# EAGLE library part SENSE1-WIREBOND-VLAQC-TEST2 (library meng)
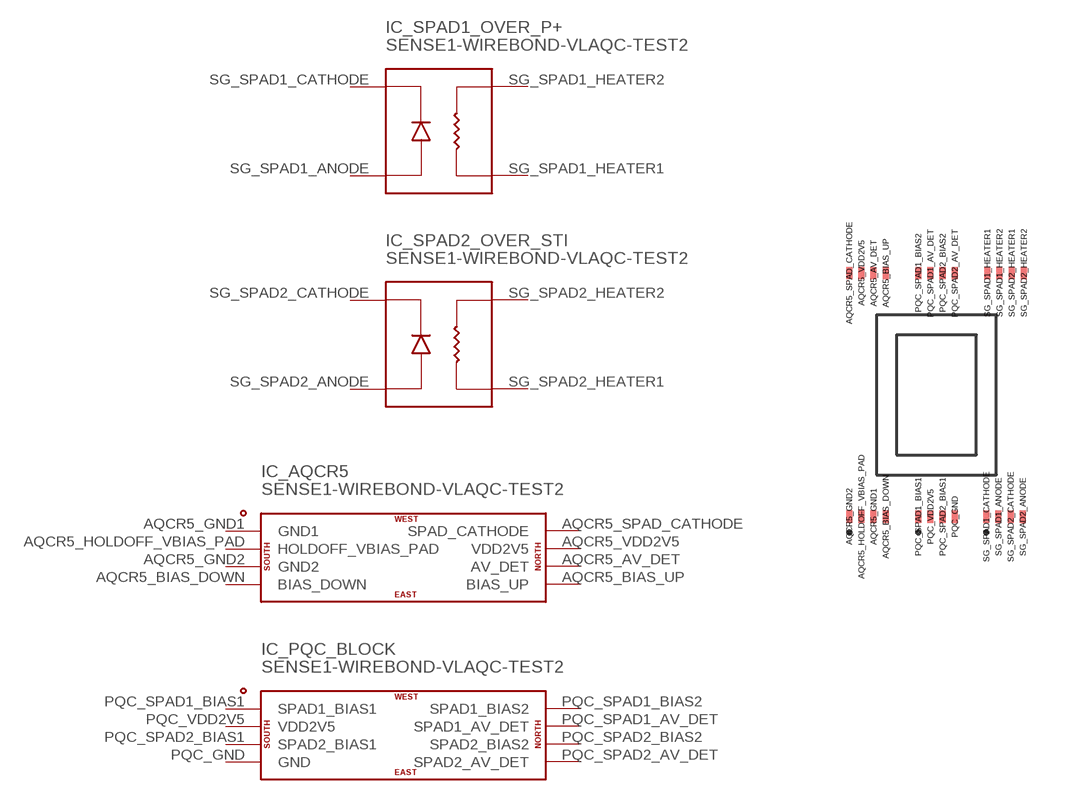
[diagram p33: symbol with the pads of SENSE1-WIREBOND-VLAQC-TEST2; footprint SENSE1-WIREBOND-VLAQC-TEST2]

Designator prefix IC; gates _SPAD1_OVER_P+=SENSE1-SPAD-WITH-HEATER _SPAD2_OVER_STI=SENSE1-SPAD-WITH-HEATER _AQCR5=SENSE1_AQC_REV5 _PQC_BLOCK=SENSE1_PQC

## SENSE1-WIREBOND-VLAQC-TEST2 (VALUE: SENSE1)  [SENSE1-WIREBOND-VLAQC-TEST2]
AQCR5_AV_DET  _AQCR5:AV_DET
AQCR5_BIAS_DOWN  _AQCR5:BIAS_DOWN
AQCR5_BIAS_UP  _AQCR5:BIAS_UP
AQCR5_GND1  _AQCR5:GND1
AQCR5_GND2  _AQCR5:GND2
AQCR5_HOLDOFF_VBIAS_PAD  _AQCR5:HOLDOFF_VBIAS_PAD
AQCR5_SPAD_CATHODE  _AQCR5:SPAD_CATHODE
AQCR5_VDD2V5  _AQCR5:VDD2V5
PQC_GND  _PQC_BLOCK:GND
PQC_SPAD1_AV_DET  _PQC_BLOCK:SPAD1_AV_DET
PQC_SPAD1_BIAS1  _PQC_BLOCK:SPAD1_BIAS1
PQC_SPAD1_BIAS2  _PQC_BLOCK:SPAD1_BIAS2
PQC_SPAD2_AV_DET  _PQC_BLOCK:SPAD2_AV_DET
PQC_SPAD2_BIAS1  _PQC_BLOCK:SPAD2_BIAS1
PQC_SPAD2_BIAS2  _PQC_BLOCK:SPAD2_BIAS2
PQC_VDD2V5  _PQC_BLOCK:VDD2V5
SG_SPAD1_ANODE  _SPAD1_OVER_P+:SPAD_ANODE
SG_SPAD1_CATHODE  _SPAD1_OVER_P+:SPAD_CATHODE
SG_SPAD1_HEATER1  _SPAD1_OVER_P+:SPAD_HEATER1
SG_SPAD1_HEATER2  _SPAD1_OVER_P+:SPAD_HEATER2
SG_SPAD2_ANODE  _SPAD2_OVER_STI:SPAD_ANODE
SG_SPAD2_CATHODE  _SPAD2_OVER_STI:SPAD_CATHODE
SG_SPAD2_HEATER1  _SPAD2_OVER_STI:SPAD_HEATER1
SG_SPAD2_HEATER2  _SPAD2_OVER_STI:SPAD_HEATER2

## Footprint SENSE1-WIREBOND-VLAQC-TEST2 (pad centres in mm)
smd 0.152 x 0.305: AQCR5_AV_DET -1.575,3.048; AQCR5_BIAS_DOWN -1.27,-3.048; AQCR5_BIAS_UP -1.27,3.048; AQCR5_GND1 -1.575,-3.048; AQCR5_GND2 -2.184,-3.048; AQCR5_HOLDOFF_VBIAS_PAD -1.88,-3.048; AQCR5_SPAD_CATHODE -2.184,3.048; AQCR5_VDD2V5 -1.88,3.048; PQC_GND 0.457,-3.048; PQC_SPAD1_AV_DET -0.152,3.048; PQC_SPAD1_BIAS1 -0.457,-3.048; PQC_SPAD1_BIAS2 -0.457,3.048; PQC_SPAD2_AV_DET 0.457,3.048; PQC_SPAD2_BIAS1 0.152,-3.048; PQC_SPAD2_BIAS2 0.152,3.048; PQC_VDD2V5 -0.152,-3.048; SG_SPAD1_ANODE 1.549,-3.048; SG_SPAD1_CATHODE 1.245,-3.048; SG_SPAD1_HEATER1 1.27,3.048; SG_SPAD1_HEATER2 1.575,3.048; SG_SPAD2_ANODE 2.159,-3.048; SG_SPAD2_CATHODE 1.854,-3.048; SG_SPAD2_HEATER1 1.88,3.048; SG_SPAD2_HEATER2 2.184,3.048